# Altium integrated library Transceiver.IntLib: 3 symbols
Pins are listed as number, name and electrical type; pins without a type are passive.

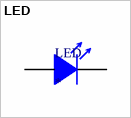
[diagram p0: symbol LED]

## LED
designator LED
footprint led3mm
pins: 1, 2


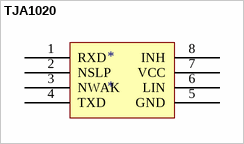
[diagram p1: symbol TJA1020]

## TJA1020
designator *
footprint SOP127P600X175-8N (SOP, 8-Leads, Body 4.90x3.90mm, Pitch 1.27mm, IPC Medium Density)
pins: 1 RXD, 2 NSLP, 3 NWAK, 4 TXD, 5 GND, 6 LIN, 7 VCC, 8 INH


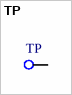
[diagram p2: symbol TP]

## TP
designator TP, comment TestPoint*  (value not drawn)
footprint TestPoint
pins: 1